# EAGLE library part MPT10 (library pluggable_terminal_blocks)
PHOENIX CONNECTOR
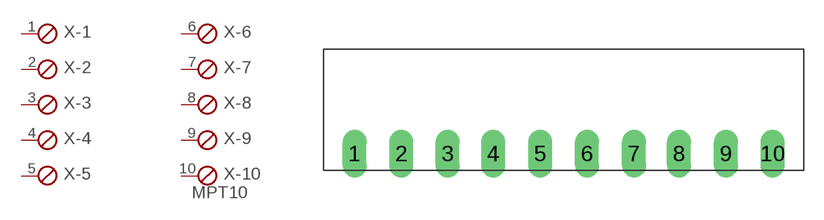
[diagram p4: symbol with the pads of 10POL35; footprint 10POL35]

Designator prefix X; gates -1=SKB -2=SKB -3=SKB -4=SKB -5=SKB -6=SKB -7=SKB -8=SKB -9=SKB -10=SKBV

## MPT10  [10POL35]
1  -1:1  pas
2  -2:1  pas
3  -3:1  pas
4  -4:1  pas
5  -5:1  pas
6  -6:1  pas
7  -7:1  pas
8  -8:1  pas
9  -9:1  pas
10  -10:1  pas

## Footprint 10POL35 (pad centres in mm)
PHOENIX CONNECTOR
drill 1.2 long: 1 -15.78,0; 2 -12.24,0; 3 -8.75,0; 4 -5.31,0; 5 -1.77,0; 6 1.77,0; 7 5.31,0; 8 8.7,0; 9 12.24,0; 10 15.78,0